# Altium schematic symbol library ICs.SchLib: 30 symbols (part 2 of 2)
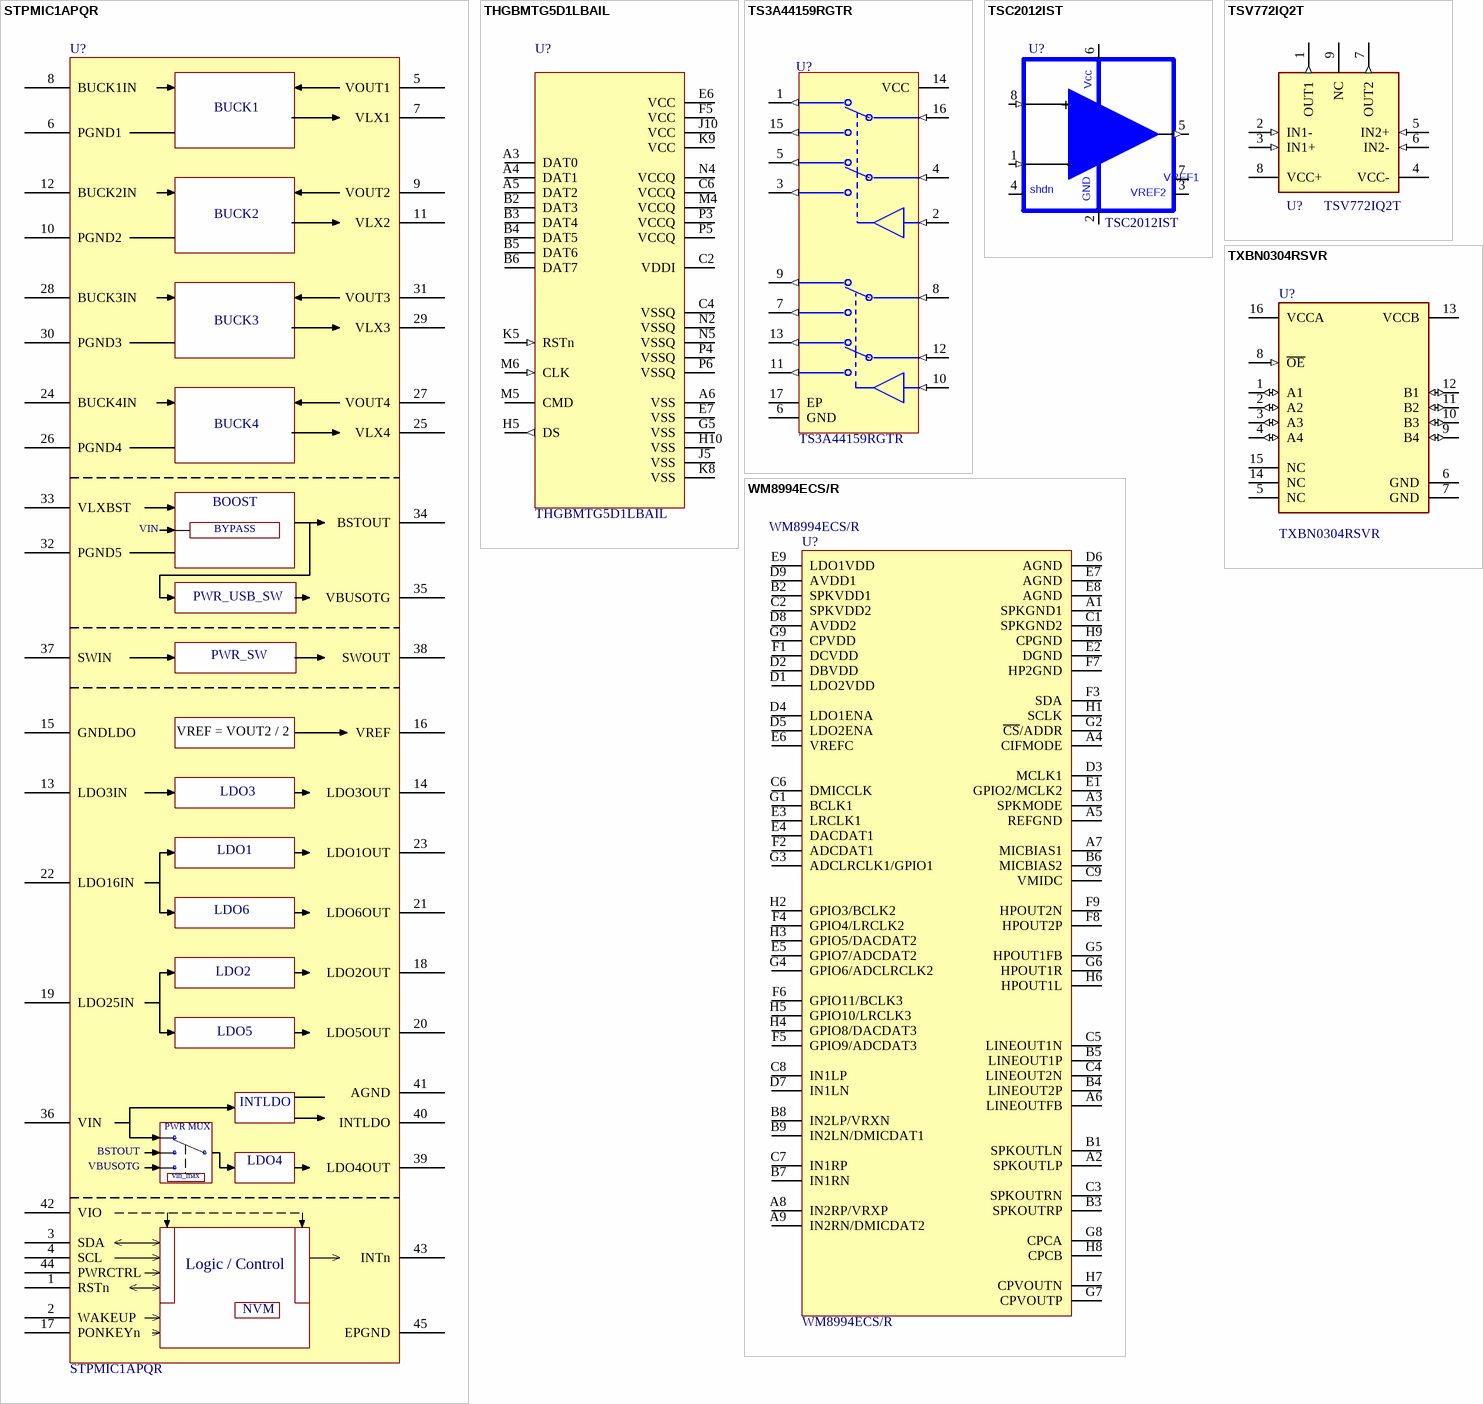
[diagram p4: symbols STPMIC1APQR to WM8994ECS/R]

## TXBN0304RSVR
designator U?
0.9V~3.6V 1 4 0.9V~3.6V 100Mbps UQFN-16(1.8x2.6) Translators / Level Shifters ROHS; Manufacturer: Texas Instruments; Library: Hexabitz; Number of Outputs: 4NUMBER; Nominal Supply Current: 10uA; Supplier: Digikey; Supplier Part Number: 296-29719-6-ND; RoHS: Yes; Category: Voltage Level Shifters; Stock: 2495; Pricing: 1=0.97, 10=0.698, 25=0.63, 100=0.5546, 250=0.51872, 500=0.49724 (USD); Number of Inputs: 4NUMBER; Length: 2.6mm; Width: 1.8mm; Height: 550um; Thickness: 500um; Lead Free: 5697LeadFree; ComponentLink1URL: https://datasheet.ciiva.com/15096/getdatasheetpartid-536301-15096421.pdf?src-supplier=Verical; ComponentLink1Description: https://datasheet.ciiva.com/15096/getdatasheetpartid-536301-15096421.pdf?src-supplier=Verical; ComponentLink2URL: https://datasheet.ciiva.com/14287/txb0304-14287894.pdf?src-supplier=Avnet; ComponentLink2Description: https://datasheet.ciiva.com/14287/txb0304-14287894.pdf?src-supplier=Avnet; ComponentLink3URL: https://datasheet.ciiva.com/1900/txb0304-1900823.pdf?src-supplier=Digikey; ComponentLink3Description: https://datasheet.ciiva.com/1900/txb0304-1900823.pdf?src-supplier=Digikey; ComponentLink4URL: https://datasheet.ciiva.com/1900/txb0304-1900824.pdf?src-supplier=Digikey; ComponentLink4Description: https://datasheet.ciiva.com/1900/txb0304-1900824.pdf?src-supplier=Digikey; ComponentLink5URL: https://datasheet.ciiva.com/1900/txb0304-1900825.pdf?src-supplier=Digikey; ComponentLink5Description: https://datasheet.ciiva.com/1900/txb0304-1900825.pdf?src-supplier=Digikey; Supplier 1: Digikey; Supplier Part Number 1: 296-29719-6-ND; Manufacturer Part Number: TXBN0304RSVR
footprint FP-RSV0016A-MFG
pins: 1 A1 (io), 2 A2 (io), 3 A3 (io), 4 A4 (io), 5 NC, 6 GND (power), 7 GND (power), 8 ~{OE} (in), 9 B4 (io), 10 B3 (io), 11 B2 (io), 12 B1 (io), 13 VCCB (power), 14 NC, 15 NC, 16 VCCA (power)

## WM8994ECS/R
designator U?
Tape & Reel (TR) Active 95 / 100 Stereo Audio codec 94dB 950mV 576mum 96ksps; Manufacturer: Cirrus Logic; Resolution: 24b; Interface: 2-Wire,3-WIRE,4-WIRE; Operating Supply Voltage: 3.6V; Bandwidth: 96kHz; Number of A/D Converters: 2; Number of D/A Converters: 4; Number of Analog Inputs: 8NUMBER; Number of Analog Outputs: 9NUMBER; Library: Hexabitz; Supplier: Digikey; Supplier Part Number: WM8994ECS/RDKR-ND; RoHS: Yes; Category: CODECs; Stock: 3755; Pricing: 1=14.77, 10=10.278, 25=9.1076, 100=7.7854, 250=7.7 (USD); Mounting Technology: Surface Mount; Pins: 72; Min Operating Temperature: -40°C; Max Operating Temperature: 85°C; Packaging: Tape and Reel; Signal to Noise Ratio (SNR): 94dB; Package Quantity: 3500; Series: -; Number of Channels: 4; Nominal Supply Voltage: 3.6V; Max Supply Voltage: 3.6V; Min Supply Voltage: 950mV; Height: 576um; Lead Free: Lead Free; ComponentLink1URL: https://datasheet.ciiva.com/16341/wm8994-productbrief-2-16341281.pdf?src-supplier=Future+Electronics; ComponentLink1Description: https://datasheet.ciiva.com/16341/wm8994-productbrief-2-16341281.pdf?src-supplier=Future+Electronics; Supplier 1: Digikey; Supplier Part Number 1: WM8994ECS/RDKR-ND; Supplier 2: Mouser; Supplier Part Number 2: 238-WM8994ECS/R; Manufacturer Part Number: WM8994ECS/R
footprint ICC_W-CSP-BGA72_4P511X4P023_P050
pins: A1 SPKGND1, A2 SPKOUTLP, A3 SPKMODE, A4 CIFMODE, A5 REFGND, A6 LINEOUTFB, A7 MICBIAS1, A8 IN2RP/VRXP, A9 IN2RN/DMICDAT2, B1 SPKOUTLN, B2 SPKVDD1, B3 SPKOUTRP, B4 LINEOUT2P, B5 LINEOUT1P, B6 MICBIAS2, B7 IN1RN, B8 IN2LP/VRXN, B9 IN2LN/DMICDAT1, C1 SPKGND2, C2 SPKVDD2, C3 SPKOUTRN, C4 LINEOUT2N, C5 LINEOUT1N, C6 DMICCLK, C7 IN1RP, C8 IN1LP, C9 VMIDC, D1 LDO2VDD, D2 DBVDD, D3 MCLK1, D4 LDO1ENA, D5 LDO2ENA, D6 AGND, D7 IN1LN, D8 AVDD2, D9 AVDD1, E1 GPIO2/MCLK2, E2 DGND, E3 LRCLK1, E4 DACDAT1, E5 GPIO7/ADCDAT2, E6 VREFC, E7 AGND, E8 AGND, E9 LDO1VDD, F1 DCVDD, F2 ADCDAT1, F3 SDA, F4 GPIO4/LRCLK2, F5 GPIO9/ADCDAT3, F6 GPIO11/BCLK3, F7 HP2GND, F8 HPOUT2P, F9 HPOUT2N, G1 BCLK1, G2 ~{CS}/ADDR, G3 ADCLRCLK1/GPIO1, G4 GPIO6/ADCLRCLK2, G5 HPOUT1FB, G6 HPOUT1R, G7 CPVOUTP, G8 CPCA, G9 CPVDD, H1 SCLK, H2 GPIO3/BCLK2, H3 GPIO5/DACDAT2, H4 GPIO8/DACDAT3, H5 GPIO10/LRCLK3, H6 HPOUT1L, H7 CPVOUTN, H8 CPCB, H9 CPGND